# EAGLE library part 61003221821 (library Eagle_BOARD-TO-BOARD_CONNECTORS (rev18b))
WR-PHD 2.54mm SMT Socket Header=>Code : Con_BTB_SHD_2.54_1_SMT_610x0421821(packageing:x = 0: Tube x = 3: Tape & Reel with Cap; 600 pcs/Reel) <http://katalog.we-online.de/media/images/eican/Con_BTB_SHD_2.54_1_SMT_6100xx21821_pf2.jpg> 6100xx21821 Details see: http://katalog.we-online.de/en/em/PHD_2_54_SMT_DUAL_SOCKET_HEADER_6100XX21821 6103xx21821 2014 (C) Würth Elektronik
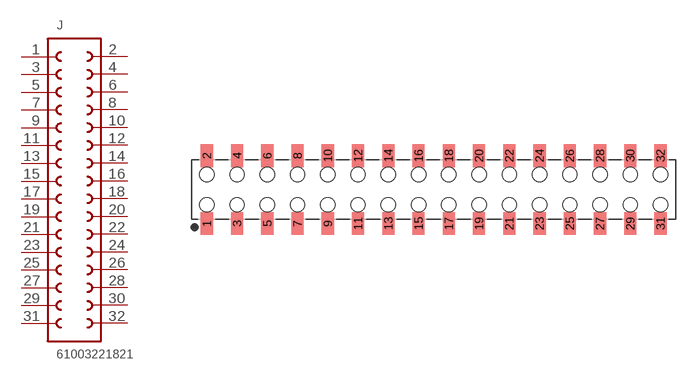
[diagram p214: symbol with the pads of 61003221821; footprint 61003221821]

Designator prefix J

## 61003221821  [61003221821]
1  1  pas
2  32  pas
3  2  pas
4  31  pas
5  3  pas
6  30  pas
7  4  pas
8  29  pas
9  5  pas
10  28  pas
11  6  pas
12  27  pas
13  7  pas
14  26  pas
15  8  pas
16  25  pas
17  9  pas
18  24  pas
19  10  pas
20  23  pas
21  11  pas
22  22  pas
23  12  pas
24  21  pas
25  13  pas
26  20  pas
27  14  pas
28  19  pas
29  15  pas
30  18  pas
31  16  pas
32  17  pas

## Footprint 61003221821 (pad centres in mm)
WR-PHD 2.54mm Dual SMT Socket Header, 32 Pins
smd 1.02 x 1.9: 1 -19.05,-2.85; 2 -19.05,2.85; 3 -16.51,-2.85; 4 -16.51,2.85; 5 -13.97,-2.85; 6 -13.97,2.85; 7 -11.43,-2.85; 8 -11.43,2.85; 9 -8.89,-2.85; 10 -8.89,2.85; 11 -6.35,-2.85; 12 -6.35,2.85; 13 -3.81,-2.85; 14 -3.81,2.85; 15 -1.27,-2.85; 16 -1.27,2.85; 17 1.27,-2.85; 18 1.27,2.85; 19 3.81,-2.85; 20 3.81,2.85; 21 6.35,-2.85; 22 6.35,2.85; 23 8.89,-2.85; 24 8.89,2.85; 25 11.43,-2.85; 26 11.43,2.85; 27 13.97,-2.85; 28 13.97,2.85; 29 16.51,-2.85; 30 16.51,2.85; 31 19.05,-2.85; 32 19.05,2.85
hole 1.2 at -19.05,-1.27
hole 1.2 at -16.51,-1.27
hole 1.2 at -16.51,1.27
hole 1.2 at -19.05,1.27
hole 1.2 at -13.97,-1.27
hole 1.2 at -13.97,1.27
hole 1.2 at -11.43,1.27
hole 1.2 at -11.43,-1.27
hole 1.2 at -8.89,-1.27
hole 1.2 at -8.89,1.27
hole 1.2 at -6.35,-1.27
hole 1.2 at -6.35,1.27
hole 1.2 at -3.81,1.27
hole 1.2 at -3.81,-1.27
hole 1.2 at -1.27,1.27
hole 1.2 at -1.27,-1.27
hole 1.2 at 1.27,-1.27
hole 1.2 at 1.27,1.27
hole 1.2 at 3.81,-1.27
hole 1.2 at 3.81,1.27
hole 1.2 at 6.35,1.27
hole 1.2 at 6.35,-1.27
hole 1.2 at 8.89,-1.27
hole 1.2 at 8.89,1.27
hole 1.2 at 11.43,-1.27
hole 1.2 at 11.43,1.27
hole 1.2 at 13.97,-1.27
hole 1.2 at 13.97,1.27
hole 1.2 at 16.51,-1.27
hole 1.2 at 16.51,1.27
hole 1.2 at 19.05,1.27
hole 1.2 at 19.05,-1.27